# Altium integrated library 3362P-1-205LF.IntLib: 1 symbol
Pins are listed as number, name and electrical type; pins without a type are passive.

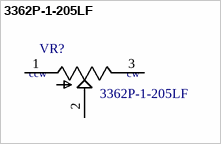
[diagram p0: symbol 3362P-1-205LF]

## 3362P-1-205LF
designator VR?
/ Res Cermet Trimmer 2M Ohm 10% 1/2W 1_Elec_/1_Mech_Turn 2.77mm _6.6 X 6.99 X 4.7mm_ Pin Thru-Hole Tube /; MF: Bourns; Package: 2220 Bourns; Price: None; MP: 3362P-1-205LF; Availability: Unavailable; SnapEDA_Link: https://www.snapeda.com/parts/3362P-1-205LF/Bourns%20-%20J.W.%20Miller/view-part/?ref=snap; Value: *
footprint *TRIM_3362P-1-205LF
pins: 1 CCW, 2 WIPER, 3 CW
text: ccw; cw